# EAGLE library part DS_CARTRIDGE (library nds_cart)
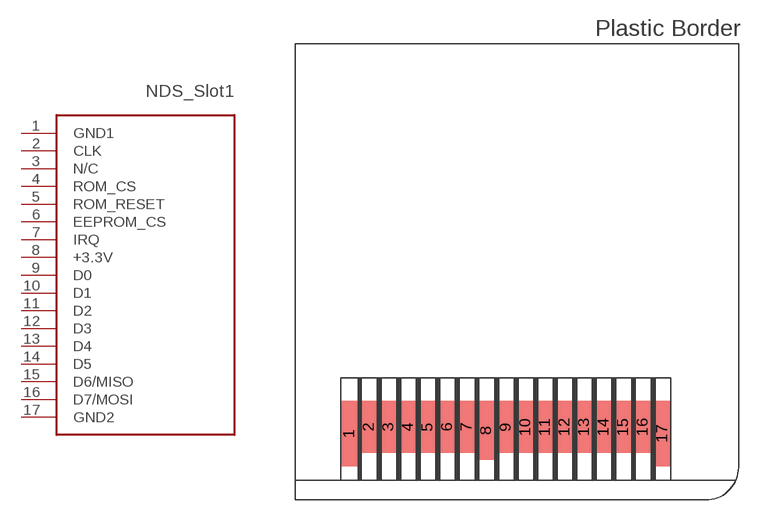
[diagram p0: symbol with the pads of DS-CARTRIDGE; footprint DS-CARTRIDGE]

Designator prefix -

## DS_CARTRIDGE  [DS-CARTRIDGE]
1  GND1  pwr
2  CLK  oc
3  N/C  nc
4  ROM_CS
5  ROM_RESET
6  EEPROM_CS
7  IRQ
8  +3.3V
9  D0
10  D1
11  D2
12  D3
13  D4
14  D5
15  D6/MISO
16  D7/MOSI
17  GND2

## Footprint DS-CARTRIDGE (pad centres in mm)
smd 1.25 x 5: 1 4.125,5.1; 17 28.125,5.1
smd 1.25 x 4: 2 5.625,5.6; 3 7.125,5.6; 4 8.625,5.6; 5 10.125,5.6; 6 11.625,5.6; 7 13.125,5.6; 9 16.125,5.6; 10 17.625,5.6; 11 19.125,5.6; 12 20.625,5.6; 13 22.125,5.6; 14 23.625,5.6; 15 25.125,5.6; 16 26.625,5.6
smd 1.25 x 4.5: 8 14.625,5.35